# Altium footprint library TCA9548APWR.PCBLIB: 1 footprints
Each footprint in its own frame and in the unit in brackets; x right, y up, seen from the top. Pads: shape width x height; smd on the part's side, far side on the other; paste and mask are expansions set on the pad; w line width, h text height; cw(c..) or ccw(c..) is an arc to the next point about the centre after c.
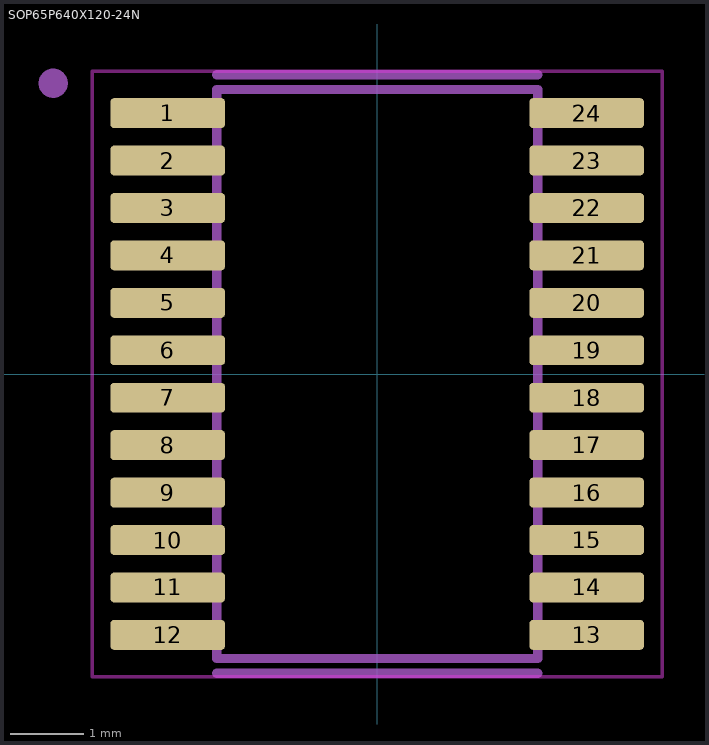
[diagram p0: the footprint, top view; thin cyan lines are the x and y axes]

## SOP65P640X120-24N [mm]
pads (24):
  rrect25% 1.57x0.41 smd: 1(-2.87,3.575) 2(-2.87,2.925) 3(-2.87,2.275) 4(-2.87,1.625) 5(-2.87,0.975) 6(-2.87,0.325) 7(-2.87,-0.325) 8(-2.87,-0.975) 9(-2.87,-1.625) 10(-2.87,-2.275) 11(-2.87,-2.925) 12(-2.87,-3.575) 13(2.87,-3.575) 14(2.87,-2.925) 15(2.87,-2.275) 16(2.87,-1.625) 17(2.87,-0.975) 18(2.87,-0.325) 19(2.87,0.325) 20(2.87,0.975) 21(2.87,1.625) 22(2.87,2.275) 23(2.87,2.925) 24(2.87,3.575)
Top keep-out:
  lines w0.05: -3.905,-4.15 -3.905,4.15 3.905,4.15 3.905,-4.15 -3.905,-4.15
tDocu:
  circle w0.2: c-4.44,3.985 r0.1
  lines w0.127: -2.2,-3.9 -2.2,3.9 2.2,3.9 2.2,-3.9 -2.2,-3.9
tPlace:
  circle w0.2: c-4.44,3.985 r0.1
  lines w0.127: -2.2,-4.1 2.2,-4.1 ; -2.2,4.1 2.2,4.1
3D body "TCA9548APWR.STEP": height 1.2, standoff 0, extent -3.2,-3.9 3.2,3.9